# Altium schematic symbol library УГО.SchLib: 15 symbols
Pins are listed as number, name and electrical type; pins without a type are passive.

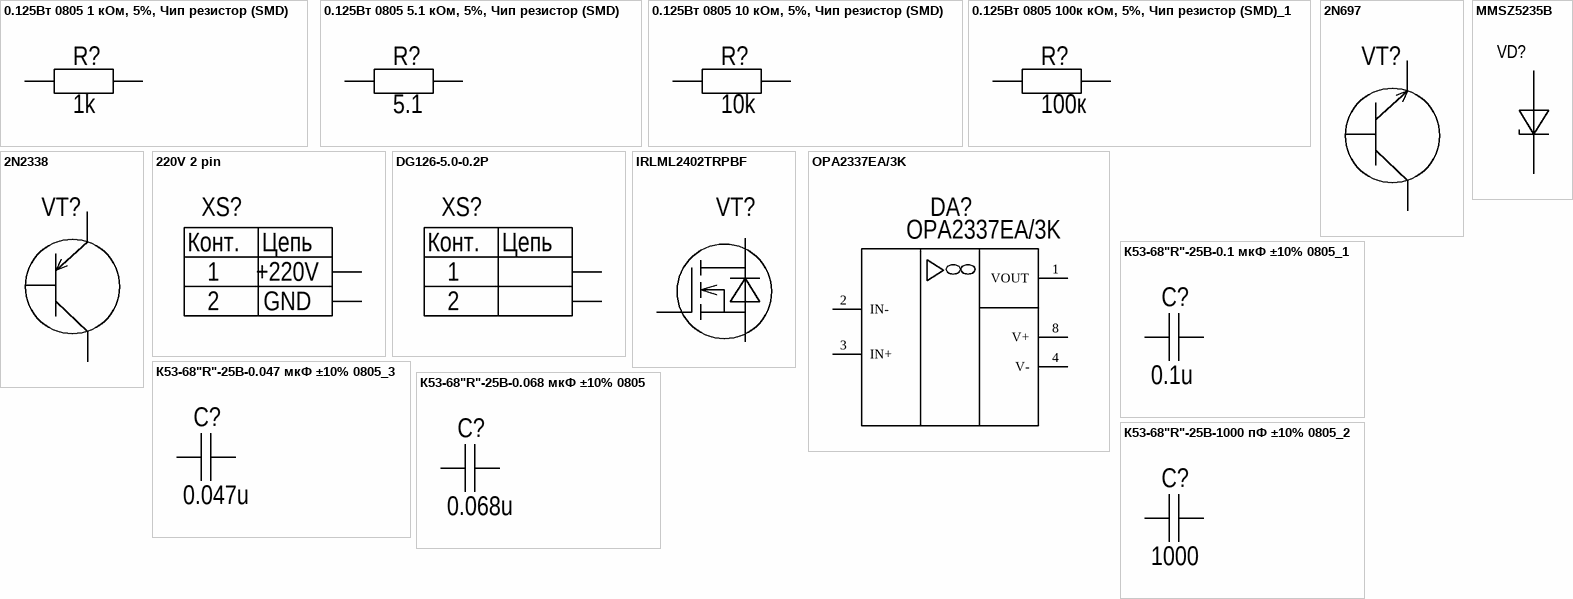
[diagram p0: symbols 0.125Вт 0805 1 кОм, 5%, Чип резистор (SMD) to К53-68"R"-25В-1000 пФ ±10% 0805_2]

## 0.125Вт 0805 1 кОм, 5%, Чип резистор (SMD)
designator R?, comment 1k
0805-0.125 Вт -1 кОм±5%
footprint 0805 (Чип (SMD))
pins: 1, 2

## 0.125Вт 0805 5.1 кОм, 5%, Чип резистор (SMD)
designator R?, comment 5.1
0805-0.125 Вт -5.1 кОм±5%
footprint 0805 (Чип (SMD))
pins: 1, 2

## 0.125Вт 0805 10 кОм, 5%, Чип резистор (SMD)
designator R?, comment 10k
0805-0.125 Вт -10 кОм±5%
footprint 0805 (Чип (SMD))
pins: 1, 2

## 0.125Вт 0805 100к кОм, 5%, Чип резистор (SMD)_1
designator R?, comment 100к
0805-0.125 Вт -100 кОм±5%
footprint 0805 (Чип (SMD))
pins: 1, 2

## 2N697
designator VT?, comment Биполярный транзистор n-p-n  (value not drawn)
2N697
footprint SOT23 (SOT23, 3-Leads, Body 2,92x2,45mm, Pitch 0,95mm, IPC Medium Density)
pins: 1 B, 2 E, 3 K

## 2N2338
designator VT?, comment Биполярный транзистор p-n-p  (value not drawn)
2N2338
footprint SOT23 (SOT23, 3-Leads, Body 2,92x2,45mm, Pitch 0,95mm, IPC Medium Density)
pins: 1 B, 2 E, 3 K

## 220V 2 pin
designator XS?  (value not drawn)
DG126-5.0-0.2P
footprint DG126-5.0-02P
pins: 1 Pin1, 2 Pin2
text: Конт.; Цепь; +220V; GND

## DG126-5.0-0.2P
designator XS?  (value not drawn)
DG126-5.0-0.2P
footprint DG126-5.0-02P
pins: 1 Pin1, 2 Pin2
text: Конт.; Цепь

## IRLML2402TRPBF
designator VT?  (value not drawn)
SI2304DDS-T1-GE3
footprint SOT23 (SOT23, 3-Leads, Body 2,92x2,45mm, Pitch 0,95mm, IPC Medium Density)
pins: 1 G, 2 S, 3 D

## MMSZ5235B
designator VD?  (value not drawn)
MMSZ5235B
footprint SOD-123 ((SMD))
pins: 1 In, 2 Out

## OPA2337EA/3K
designator DA?
footprint SOIC-8 (SOIC, 8-Leads, Body 4,90x3,90mm, Pitch 1,27mm, IPC Medium Density)
pins: 1 VOUT, 2 IN-, 3 IN+, 4 V-, 8 V+

## К53-68"R"-25В-0.1 мкФ ±10% 0805_1
designator C?, comment 0.1u
К53-68"R"-25В-0.1 мкФ ±10%
footprint 0805 (Чип (SMD))
pins: 1, 2

## К53-68"R"-25В-0.047 мкФ ±10% 0805_3
designator C?, comment 0.047u
К53-68"R"-25В-0.047 мкФ ±10%
footprint 0805 (Чип (SMD))
pins: 1, 2

## К53-68"R"-25В-0.068 мкФ ±10% 0805
designator C?, comment 0.068u
К53-68"R"-25В-0.068 мкФ ±10%
footprint 0805 (Чип (SMD))
pins: 1, 2

## К53-68"R"-25В-1000 пФ ±10% 0805_2
designator C?, comment 1000
К53-68"R"-25В-1000 пФ ±10%
footprint 0805 (Чип (SMD))
pins: 1, 2